# Altium footprint library display.PcbLib: 2 footprints
Each footprint in its own frame and in the unit in brackets; x right, y up, seen from the top. Pads: shape width x height; smd on the part's side, far side on the other; paste and mask are expansions set on the pad; w line width, h text height; cw(c..) or ccw(c..) is an arc to the next point about the centre after c.
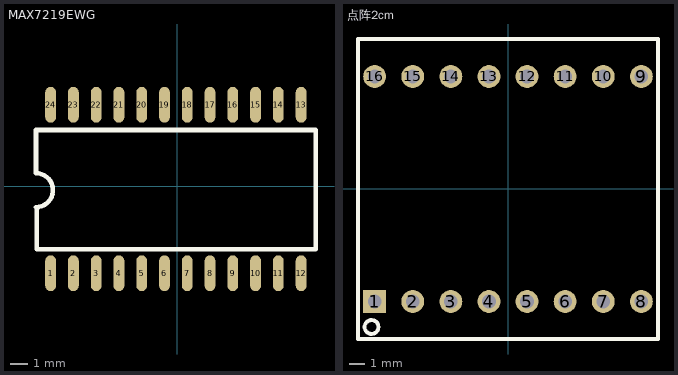
[diagram p0: the footprints below, top view; thin cyan lines are the x and y axes]

## MAX7219EWG [mm]
pads (24):
  oval 0.6x1.998 smd: 1(-7.059,-4.843) 2(-5.789,-4.843) 3(-4.519,-4.843) 4(-3.249,-4.843) 5(-1.979,-4.843) 6(-0.709,-4.843) 7(0.561,-4.843) 8(1.831,-4.843) 9(3.101,-4.843) 10(4.371,-4.843) 11(5.641,-4.843) 12(6.911,-4.843) 13(6.911,4.557) 14(5.641,4.557) 15(4.371,4.557) 16(3.101,4.557) 17(1.831,4.557) 18(0.561,4.557) 19(-0.709,4.557) 20(-1.979,4.557) 21(-3.249,4.557) 22(-4.519,4.557) 23(-5.789,4.557) 24(-7.059,4.557)
Top Overlay:
  lines w0.254: -7.874,-1.159 ccw(c-7.874,-0.211) -7.874,0.738 -7.874,3.147 7.726,3.147 7.726,-3.496 -7.844,-3.496 -7.844,-1.159

## 点阵2cm [mil]
pads (16):
  rect 60x60 hole 36: 1(-350,-295.28)
  round 60 hole 36: 2(-250,-295.28) 3(-150,-295.28) 4(-50,-295.28) 5(50,-295.28) 6(150,-295.28) 7(250,-295.28) 8(350,-295.28) 9(350,295.27) 10(250,295.28) 11(150,295.28) 12(50,295.28) 13(-50,295.28) 14(-150,295.28) 15(-250,295.28) 16(-350,295.28)
Top Overlay:
  circle w10: c-358.27,-362.2 r18.15
  lines w10: -393.7,-393.7 393.7,-393.7 393.7,393.7 -393.7,393.7 -393.7,-393.7